# Altium schematic symbol library SCH - CONNECTORS - PCI-E MINI CARD CONNECTOR.SCHLIB: 3 symbols
Pins are listed as number, name and electrical type; pins without a type are passive.

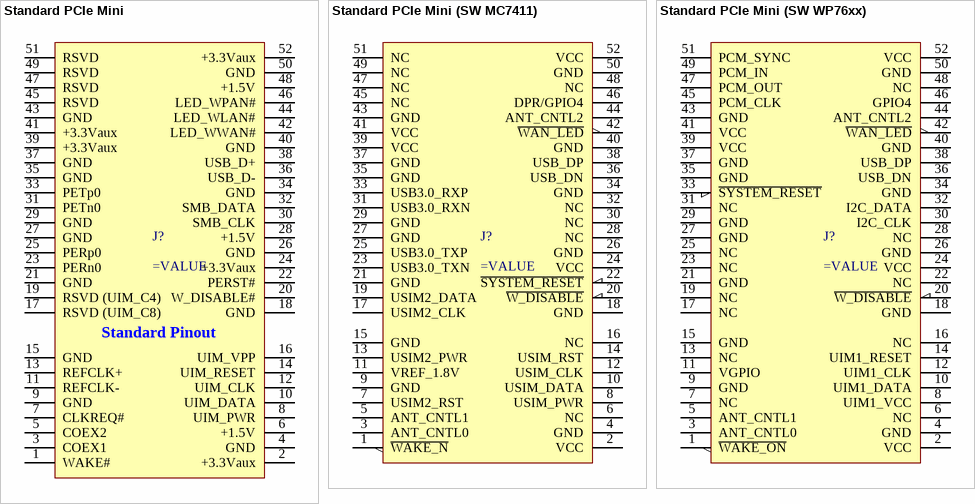
[diagram p0: symbols Standard PCIe Mini to Standard PCIe Mini (SW WP76xx)]

## Standard PCIe Mini
designator J?
pins: 1 WAKE#, 2 +3.3Vaux, 3 COEX1, 4 GND, 5 COEX2, 6 +1.5V, 7 CLKREQ#, 8 UIM_PWR, 9 GND, 10 UIM_DATA, 11 REFCLK-, 12 UIM_CLK, 13 REFCLK+, 14 UIM_RESET, 15 GND, 16 UIM_VPP, 17 RSVD (UIM_C8), 18 GND, 19 RSVD (UIM_C4), 20 W_DISABLE#, 21 GND, 22 PERST#, 23 PERn0, 24 +3.3Vaux, 25 PERp0, 26 GND, 27 GND, 28 +1.5V, 29 GND, 30 SMB_CLK, 31 PETn0, 32 SMB_DATA, 33 PETp0, 34 GND, 35 GND, 36 USB_D-, 37 GND, 38 USB_D+, 39 +3.3Vaux, 40 GND, 41 +3.3Vaux, 42 LED_WWAN#, 43 GND, 44 LED_WLAN#, 45 RSVD, 46 LED_WPAN#, 47 RSVD, 48 +1.5V, 49 RSVD, 50 GND, 51 RSVD, 52 +3.3Vaux
2 alternate drawings of the same symbol
text: Standard Pinout

## Standard PCIe Mini (SW MC7411)
designator J?
pins: 1 ~{WAKE_N}, 2 VCC, 3 ANT_CNTL0, 4 GND, 5 ANT_CNTL1, 6 NC, 7 USIM2_RST, 8 USIM_PWR, 9 GND, 10 USIM_DATA, 11 VREF_1.8V, 12 USIM_CLK, 13 USIM2_PWR, 14 USIM_RST, 15 GND, 16 NC, 17 USIM2_CLK, 18 GND, 19 USIM2_DATA, 20 ~{W_DISABLE}, 21 GND, 22 ~{SYSTEM_RESET}, 23 USB3.0_TXN, 24 VCC, 25 USB3.0_TXP, 26 GND, 27 GND, 28 NC, 29 GND, 30 NC, 31 USB3.0_RXN, 32 NC, 33 USB3.0_RXP, 34 GND, 35 GND, 36 USB_DN, 37 GND, 38 USB_DP, 39 VCC, 40 GND, 41 VCC, 42 ~{WAN_LED}, 43 GND, 44 ANT_CNTL2, 45 NC, 46 DPR/GPIO4, 47 NC, 48 NC, 49 NC, 50 GND, 51 NC, 52 VCC

## Standard PCIe Mini (SW WP76xx)
designator J?
pins: 1 ~{WAKE_ON}, 2 VCC, 3 ANT_CNTL0, 4 GND, 5 ANT_CNTL1, 6 NC, 7 NC, 8 UIM1_VCC, 9 GND, 10 UIM1_DATA, 11 VGPIO, 12 UIM1_CLK, 13 NC, 14 UIM1_RESET, 15 GND, 16 NC, 17 NC, 18 GND, 19 NC, 20 ~{W_DISABLE}, 21 GND, 22 NC, 23 NC, 24 VCC, 25 NC, 26 GND, 27 GND, 28 NC, 29 GND, 30 I2C_CLK, 31 NC, 32 I2C_DATA, 33 ~{SYSTEM_RESET}, 34 GND, 35 GND, 36 USB_DN, 37 GND, 38 USB_DP, 39 VCC, 40 GND, 41 VCC, 42 ~{WAN_LED}, 43 GND, 44 ANT_CNTL2, 45 PCM_CLK, 46 GPIO4, 47 PCM_OUT, 48 NC, 49 PCM_IN, 50 GND, 51 PCM_SYNC, 52 VCC